# Altium footprint library Infineon Power MOSFET.PcbLib: 137 footprints (part 7 of 9)
Each footprint in its own frame and in the unit in brackets; x right, y up, seen from the top. Pads: shape width x height; smd on the part's side, far side on the other; paste and mask are expansions set on the pad; w line width, h text height; cw(c..) or ccw(c..) is an arc to the next point about the centre after c.
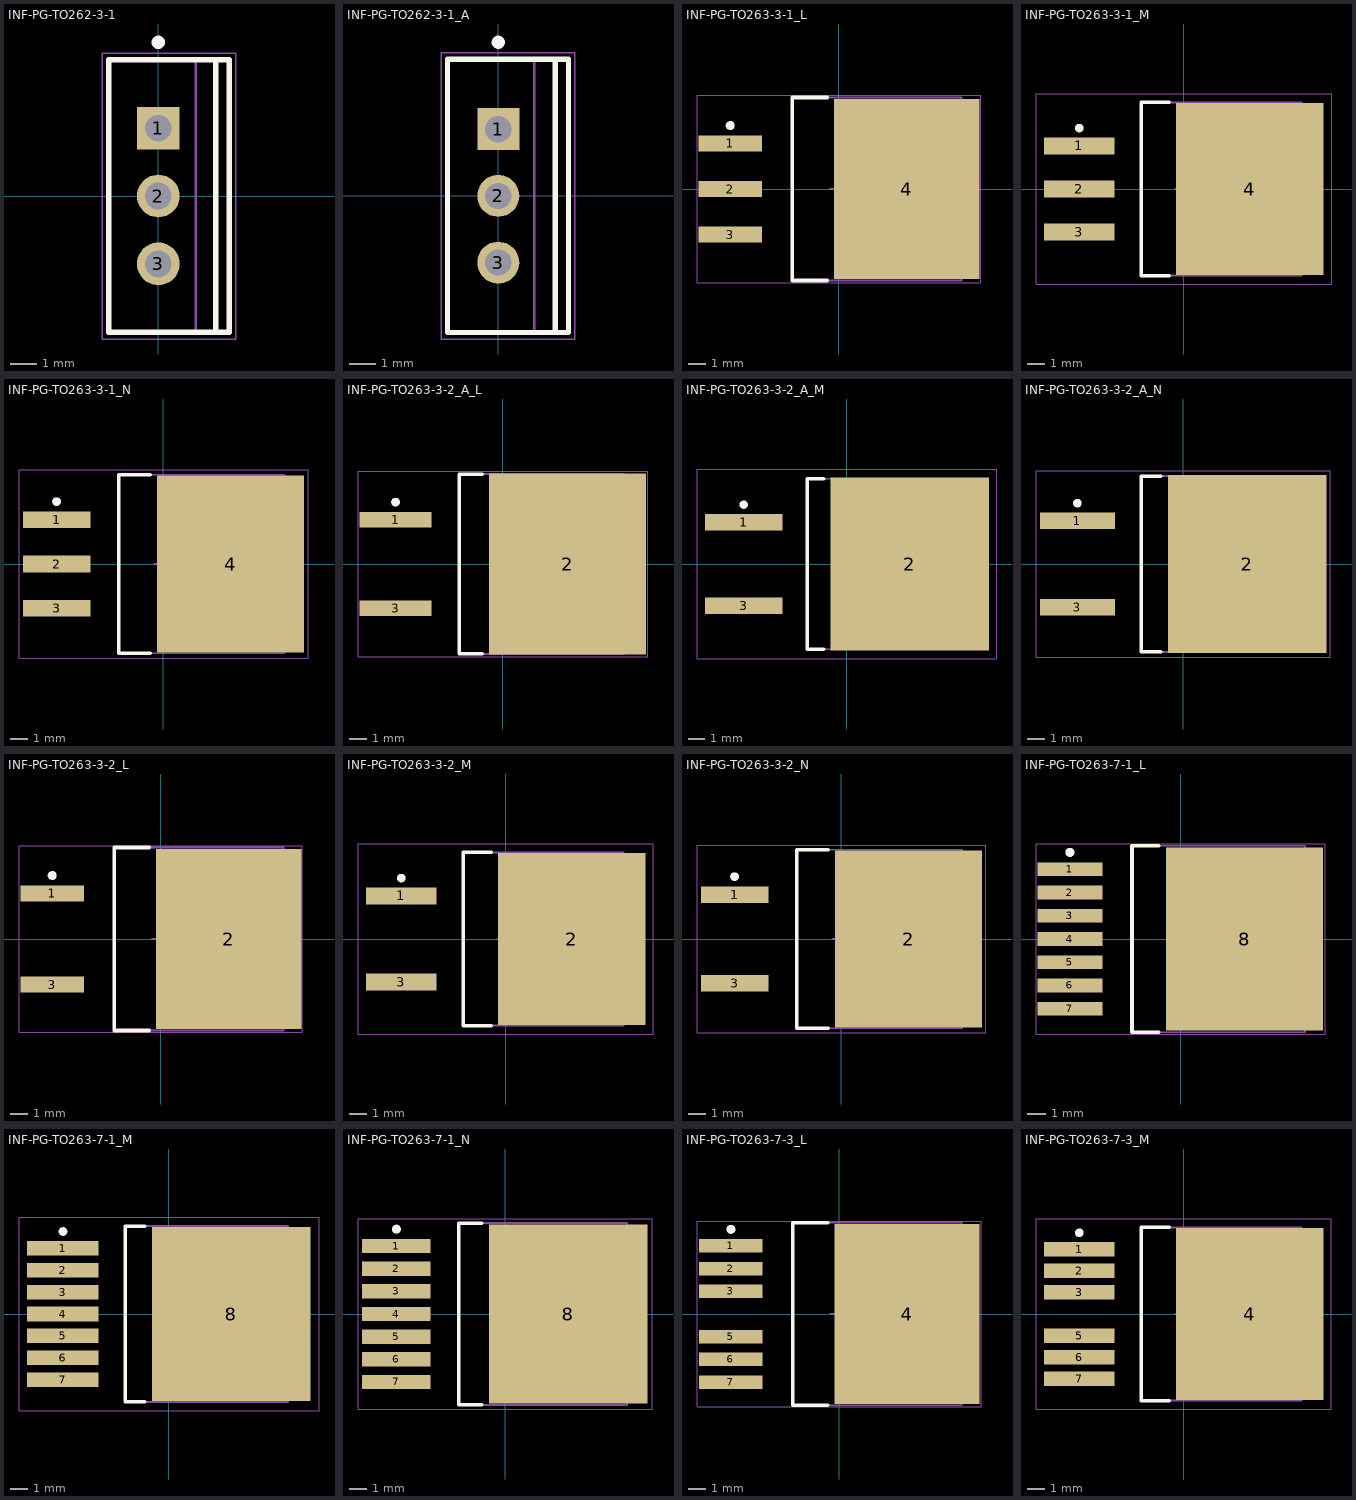
[diagram p6: the footprints below, top view; thin cyan lines are the x and y axes]

## INF-PG-TO262-3-1 [mm] "FM, 3-Leads, Body 10x4.4mm, Pitch 2.54mm"
height 12.43
pads (3):
  rect 1.6x1.6 hole 1: 1(0,2.54)
  round 1.6 hole 1: 2(0,0) 3(0,-2.54)
Top Overlay:
  circle w0.25: c0,5.75 r0.125
  lines w0.2: 2.15,-5.1 2.15,5.1 ; -1.85,-5.1 2.65,-5.1 2.65,5.1 -1.85,5.1 -1.85,-5.1
Mechanical 13:
  lines w0.1: 1.4,-5.1 1.4,5.1 ; -1.85,-5.1 -1.85,5.1 2.65,5.1 2.65,-5.1 -1.85,-5.1
Mechanical 15:
  lines w0.05: -2.1,-5.35 -2.1,5.35 2.9,5.35 2.9,-5.35 -2.1,-5.35
  lines w0.1: -0.5,0 0.5,0 ; 0,-0.5 0,0.5
3D body: height 4.35, standoff 0, extent -0.25,2.03 0.25,3.05
3D body: height 0, standoff -1.6, extent -0.25,2.165 0.25,2.915
3D body: height 4.35, standoff 0, extent -0.25,-0.51 0.25,0.51
3D body: height 0, standoff -1.6, extent -0.25,-0.375 0.25,0.375
3D body: height 4.35, standoff 0, extent -0.25,-3.05 0.25,-2.03
3D body: height 0, standoff -1.6, extent -0.25,-2.915 0.25,-2.165
3D body: height 14.5, standoff 4.35, extent -1.85,-5.1 2.65,5.1
3D body: height 12.43, standoff 14.5, extent 1.4,-5 2.65,5

## INF-PG-TO262-3-1_A [mm] "FM, 3-Leads, Body 10.03x4.436mm, Pitch 2.54mm"
height 15.98
pads (3):
  rect 1.6x1.6 hole 1: 1(0,2.54)
  round 1.6 hole 1: 2(0,0) 3(0,-2.54)
Top Overlay:
  circle w0.25: c0,5.85 r0.125
  lines w0.2: 2.17,-5.2 2.17,5.2 ; -1.93,-5.2 -1.93,5.2 2.67,5.2 2.67,-5.2 -1.93,-5.2
Mechanical 13:
  lines w0.1: 1.37,-5.2 1.37,5.2 ; -1.93,-5.2 2.67,-5.2 2.67,5.2 -1.93,5.2 -1.93,-5.2
Mechanical 15:
  lines w0.05: -2.18,-5.45 2.92,-5.45 2.92,5.45 -2.18,5.45 -2.18,-5.45
  lines w0.1: -0.5,0 0.5,0 ; 0,-0.5 0,0.5
3D body: height 15.98, standoff 14.23, extent 1.37,-5.025 2.67,5.025
3D body: height 14.23, standoff 4.8, extent -1.93,-5.2 2.67,5.2
3D body: height 0, standoff -1.6, extent -0.235,-2.92 0.235,-2.16
3D body: height 4.8, standoff 0, extent -0.235,-3.13 0.235,-1.95
3D body: height 0, standoff -1.6, extent -0.235,-0.38 0.235,0.38
3D body: height 4.8, standoff 0, extent -0.235,-0.59 0.235,0.59
3D body: height 0, standoff -1.6, extent -0.235,2.16 0.235,2.92
3D body: height 4.8, standoff 0, extent -0.235,1.95 0.235,3.13

## INF-PG-TO263-3-1_L [mm] "DPAK, 3-Leads, Body 10x9.25mm, Pitch 2.54mm, IPC High Density"
height 4.4
pads (4):
  rect 3.55x0.9 smd: 1(-6.05,2.54) 2(-6.05,0) 3(-6.05,-2.54)
  rect 8.1x10.05 smd: 4(3.8,0)
Top Overlay:
  circle w0.25: c-6.05,3.54 r0.125
  lines w0.2: -0.65,-5.1 -2.6,-5.1 -2.6,5.1 -0.65,5.1
Mechanical 13:
  lines w0.1: -2.6,-5.1 -2.6,5.1 6.85,5.1 6.85,-5.1 -2.6,-5.1
Mechanical 15:
  lines w0.05: -7.9,-5.225 -7.9,5.225 7.925,5.225 7.925,-5.225 -7.9,-5.225
  lines w0.1: -0.5,0 0.5,0 ; 0,-0.5 0,0.5
3D body: height 4.4, standoff 0.1, extent -2.6,-5.1 6.85,5.1

## INF-PG-TO263-3-1_M [mm] "DPAK, 3-Leads, Body 10x9.25mm, Pitch 2.54mm, IPC Low Density"
height 4.4
pads (4):
  rect 4.15x1 smd: 1(-6.15,2.54) 2(-6.15,0) 3(-6.15,-2.54)
  rect 8.7x10.15 smd: 4(3.9,0)
Top Overlay:
  circle w0.25: c-6.15,3.59 r0.125
  lines w0.2: -0.85,-5.1 -2.5,-5.1 -2.5,5.1 -0.85,5.1
Mechanical 13:
  lines w0.1: -2.5,-5.1 6.95,-5.1 6.95,5.1 -2.5,5.1 -2.5,-5.1
Mechanical 15:
  lines w0.05: -8.7,-5.625 8.725,-5.625 8.725,5.625 -8.7,5.625 -8.7,-5.625
  lines w0.1: -0.5,0 0.5,0 ; 0,-0.5 0,0.5
3D body: height 4.4, standoff 0.1, extent -2.5,-5.1 6.95,5.1

## INF-PG-TO263-3-1_N [mm] "DPAK, 3-Leads, Body 10x9.25mm, Pitch 2.54mm, IPC Medium Density"
height 4.4
pads (4):
  rect 3.85x0.95 smd: 1(-6.1,2.54) 2(-6.1,0) 3(-6.1,-2.54)
  rect 8.4x10.1 smd: 4(3.85,0)
Top Overlay:
  circle w0.25: c-6.1,3.565 r0.125
  lines w0.2: -0.75,-5.1 -2.55,-5.1 -2.55,5.1 -0.75,5.1
Mechanical 13:
  lines w0.1: -2.55,-5.1 6.9,-5.1 6.9,5.1 -2.55,5.1 -2.55,-5.1
Mechanical 15:
  lines w0.05: -8.25,-5.375 8.275,-5.375 8.275,5.375 -8.25,5.375 -8.25,-5.375
  lines w0.1: -0.5,0 0.5,0 ; 0,-0.5 0,0.5
3D body: height 4.4, standoff 0.1, extent -2.55,-5.1 6.9,5.1

## INF-PG-TO263-3-2_A_L [mm] "DPAK, 3-Leads, Body 10.1x8.98mm, Pitch 2.54mm, IPC High Density"
height 4.57
pads (3):
  rect 4.1x0.9 smd: 1(-6.15,2.54) 3(-6.15,-2.54)
  rect 9x10.35 smd: 2(3.7,0)
Top Overlay:
  circle w0.25: c-6.15,3.54 r0.125
  lines w0.2: -1.2,-5.15 -2.5,-5.15 -2.5,5.15 -1.2,5.15
Mechanical 13:
  lines w0.1: -2.5,-5.15 6.95,-5.15 6.95,5.15 -2.5,5.15 -2.5,-5.15
Mechanical 15:
  lines w0.05: -8.3,-5.3 8.3,-5.3 8.3,5.3 -8.3,5.3 -8.3,-5.3
  lines w0.1: -0.5,0 0.5,0 ; 0,-0.5 0,0.5
3D body: height 4.57, standoff 0, extent -2.5,-5.15 6.95,5.15

## INF-PG-TO263-3-2_A_M [mm] "DPAK, 3-Leads, Body 10.1x8.98mm, Pitch 2.54mm, IPC Low Density"
height 4.57
pads (3):
  rect 4.7x1 smd: 1(-6.25,2.54) 3(-6.25,-2.54)
  rect 9.6x10.45 smd: 2(3.8,0)
Top Overlay:
  circle w0.25: c-6.25,3.59 r0.125
  lines w0.2: -1.4,-5.15 -2.4,-5.15 -2.4,5.15 -1.4,5.15
Mechanical 13:
  lines w0.1: -2.4,-5.15 -2.4,5.15 7.05,5.15 7.05,-5.15 -2.4,-5.15
Mechanical 15:
  lines w0.05: -9.075,-5.725 -9.075,5.725 9.075,5.725 9.075,-5.725 -9.075,-5.725
  lines w0.1: -0.5,0 0.5,0 ; 0,-0.5 0,0.5
3D body: height 4.57, standoff 0, extent -2.4,-5.15 7.05,5.15

## INF-PG-TO263-3-2_A_N [mm] "DPAK, 3-Leads, Body 10.1x8.98mm, Pitch 2.54mm, IPC Medium Density"
height 4.57
pads (3):
  rect 4.4x0.95 smd: 1(-6.2,2.54) 3(-6.2,-2.54)
  rect 9.3x10.4 smd: 2(3.75,0)
Top Overlay:
  circle w0.25: c-6.2,3.565 r0.125
  lines w0.2: -1.3,-5.15 -2.45,-5.15 -2.45,5.15 -1.3,5.15
Mechanical 13:
  lines w0.1: -2.45,-5.15 -2.45,5.15 7,5.15 7,-5.15 -2.45,-5.15
Mechanical 15:
  lines w0.05: -8.625,-5.45 -8.625,5.45 8.625,5.45 8.625,-5.45 -8.625,-5.45
  lines w0.1: -0.5,0 0.5,0 ; 0,-0.5 0,0.5
3D body: height 4.57, standoff 0, extent -2.45,-5.15 7,5.15

## INF-PG-TO263-3-2_L [mm] "DPAK, 3-Leads, Body 10x9.25mm, Pitch 2.54mm, IPC High Density"
height 4.4
pads (3):
  rect 3.55x0.9 smd: 1(-6.05,2.54) 3(-6.05,-2.54)
  rect 8.1x10.05 smd: 2(3.8,0)
Top Overlay:
  circle w0.25: c-6.05,3.54 r0.125
  lines w0.2: -0.65,-5.1 -2.6,-5.1 -2.6,5.1 -0.65,5.1
Mechanical 13:
  lines w0.1: -2.6,-5.1 6.85,-5.1 6.85,5.1 -2.6,5.1 -2.6,-5.1
Mechanical 15:
  lines w0.05: -7.9,-5.2 7.9,-5.2 7.9,5.2 -7.9,5.2 -7.9,-5.2
  lines w0.1: -0.5,0 0.5,0 ; 0,-0.5 0,0.5
3D body: height 4.4, standoff 0.1, extent -2.6,-5.1 6.85,5.1

## INF-PG-TO263-3-2_M [mm] "DPAK, 3-Leads, Body 10x9.25mm, Pitch 2.54mm, IPC Low Density"
height 4.4
pads (3):
  rect 4.15x1 smd: 1(-6.15,2.54) 3(-6.15,-2.54)
  rect 8.7x10.15 smd: 2(3.9,0)
Top Overlay:
  circle w0.25: c-6.15,3.59 r0.125
  lines w0.2: -0.85,-5.1 -2.5,-5.1 -2.5,5.1 -0.85,5.1
Mechanical 13:
  lines w0.1: -2.5,-5.1 6.95,-5.1 6.95,5.1 -2.5,5.1 -2.5,-5.1
Mechanical 15:
  lines w0.05: -8.7,-5.6 8.7,-5.6 8.7,5.6 -8.7,5.6 -8.7,-5.6
  lines w0.1: -0.5,0 0.5,0 ; 0,-0.5 0,0.5
3D body: height 4.4, standoff 0.1, extent -2.5,-5.1 6.95,5.1

## INF-PG-TO263-3-2_N [mm] "DPAK, 3-Leads, Body 10x9.25mm, Pitch 2.54mm, IPC Medium Density"
height 4.4
pads (3):
  rect 3.85x0.95 smd: 1(-6.1,2.54) 3(-6.1,-2.54)
  rect 8.4x10.1 smd: 2(3.85,0)
Top Overlay:
  circle w0.25: c-6.1,3.565 r0.125
  lines w0.2: -0.75,-5.1 -2.55,-5.1 -2.55,5.1 -0.75,5.1
Mechanical 13:
  lines w0.1: -2.55,-5.1 6.9,-5.1 6.9,5.1 -2.55,5.1 -2.55,-5.1
Mechanical 15:
  lines w0.05: -8.25,-5.35 8.25,-5.35 8.25,5.35 -8.25,5.35 -8.25,-5.35
  lines w0.1: -0.5,0 0.5,0 ; 0,-0.5 0,0.5
3D body: height 4.4, standoff 0.1, extent -2.55,-5.1 6.9,5.1

## INF-PG-TO263-7-1_L [mm] "DPAK, 8-Leads, Body 10x9.25mm, Pitch 1.27mm, IPC High Density"
height 4.4
pads (8):
  rect 3.55x0.75 smd: 1(-6.05,3.81) 2(-6.05,2.54) 3(-6.05,1.27) 4(-6.05,0) 5(-6.05,-1.27) 6(-6.05,-2.54) 7(-6.05,-3.81)
  rect 8.6x10 smd: 8(3.5,0)
Top Overlay:
  circle w0.25: c-6.05,4.735 r0.125
  lines w0.2: -1.2,-5.1 -2.65,-5.1 -2.65,5.1 -1.2,5.1
Mechanical 13:
  lines w0.1: -2.65,-5.1 -2.65,5.1 6.8,5.1 6.8,-5.1 -2.65,-5.1
Mechanical 15:
  lines w0.05: -7.9,-5.2 -7.9,5.2 7.9,5.2 7.9,-5.2 -7.9,-5.2
  lines w0.1: -0.5,0 0.5,0 ; 0,-0.5 0,0.5
3D body: height 4.4, standoff 0.1, extent -2.65,-5.1 6.8,5.1

## INF-PG-TO263-7-1_M [mm] "DPAK, 8-Leads, Body 10x9.25mm, Pitch 1.27mm, IPC Low Density"
height 4.4
pads (8):
  rect 4.15x0.85 smd: 1(-6.15,3.81) 2(-6.15,2.54) 3(-6.15,1.27) 4(-6.15,0) 5(-6.15,-1.27) 6(-6.15,-2.54) 7(-6.15,-3.81)
  rect 9.2x10.1 smd: 8(3.6,0)
Top Overlay:
  circle w0.25: c-6.15,4.785 r0.125
  lines w0.2: -1.4,-5.1 -2.55,-5.1 -2.55,5.1 -1.4,5.1
Mechanical 13:
  lines w0.1: -2.55,-5.1 -2.55,5.1 6.9,5.1 6.9,-5.1 -2.55,-5.1
Mechanical 15:
  lines w0.05: -8.7,-5.6 -8.7,5.6 8.7,5.6 8.7,-5.6 -8.7,-5.6
  lines w0.1: -0.5,0 0.5,0 ; 0,-0.5 0,0.5
3D body: height 4.4, standoff 0.1, extent -2.55,-5.1 6.9,5.1

## INF-PG-TO263-7-1_N [mm] "DPAK, 8-Leads, Body 10x9.25mm, Pitch 1.27mm, IPC Medium Density"
height 4.4
pads (8):
  rect 3.85x0.8 smd: 1(-6.1,3.81) 2(-6.1,2.54) 3(-6.1,1.27) 4(-6.1,0) 5(-6.1,-1.27) 6(-6.1,-2.54) 7(-6.1,-3.81)
  rect 8.9x10.05 smd: 8(3.55,0)
Top Overlay:
  circle w0.25: c-6.1,4.76 r0.125
  lines w0.2: -1.3,-5.1 -2.6,-5.1 -2.6,5.1 -1.3,5.1
Mechanical 13:
  lines w0.1: -2.6,-5.1 -2.6,5.1 6.85,5.1 6.85,-5.1 -2.6,-5.1
Mechanical 15:
  lines w0.05: -8.25,-5.35 -8.25,5.35 8.25,5.35 8.25,-5.35 -8.25,-5.35
  lines w0.1: -0.5,0 0.5,0 ; 0,-0.5 0,0.5
3D body: height 4.4, standoff 0.1, extent -2.6,-5.1 6.85,5.1

## INF-PG-TO263-7-3_L [mm] "DPAK, 7-Leads, Body 10x9.25mm, Pitch 1.27mm, IPC High Density"
height 4.4
pads (7):
  rect 3.55x0.75 smd: 1(-6.05,3.81) 2(-6.05,2.54) 3(-6.05,1.27) 5(-6.05,-1.27) 6(-6.05,-2.54) 7(-6.05,-3.81)
  rect 8.1x10.05 smd: 4(3.8,0)
Top Overlay:
  circle w0.25: c-6.05,4.735 r0.125
  lines w0.2: -0.65,-5.1 -2.6,-5.1 -2.6,5.1 -0.65,5.1
Mechanical 13:
  lines w0.1: -2.6,-5.1 6.85,-5.1 6.85,5.1 -2.6,5.1 -2.6,-5.1
Mechanical 15:
  lines w0.05: -7.95,-5.2 7.95,-5.2 7.95,5.2 -7.95,5.2 -7.95,-5.2
  lines w0.1: -0.5,0 0.5,0 ; 0,-0.5 0,0.5
3D body: height 4.4, standoff 0.1, extent -2.6,-5.1 6.85,5.1

## INF-PG-TO263-7-3_M [mm] "DPAK, 7-Leads, Body 10x9.25mm, Pitch 1.27mm, IPC Low Density"
height 4.4
pads (7):
  rect 4.15x0.85 smd: 1(-6.15,3.81) 2(-6.15,2.54) 3(-6.15,1.27) 5(-6.15,-1.27) 6(-6.15,-2.54) 7(-6.15,-3.81)
  rect 8.7x10.15 smd: 4(3.9,0)
Top Overlay:
  circle w0.25: c-6.15,4.785 r0.125
  lines w0.2: -0.85,-5.1 -2.5,-5.1 -2.5,5.1 -0.85,5.1
Mechanical 13:
  lines w0.1: -2.5,-5.1 6.95,-5.1 6.95,5.1 -2.5,5.1 -2.5,-5.1
Mechanical 15:
  lines w0.05: -8.7,-5.6 8.7,-5.6 8.7,5.6 -8.7,5.6 -8.7,-5.6
  lines w0.1: -0.5,0 0.5,0 ; 0,-0.5 0,0.5
3D body: height 4.4, standoff 0.1, extent -2.5,-5.1 6.95,5.1